# EAGLE library part AT89RF231 (library squirrel)
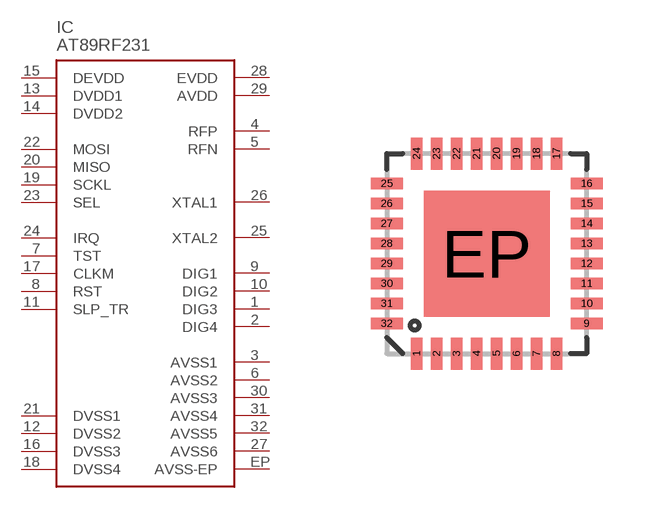
[diagram p4: symbol with the pads of QFN-32; footprint QFN-32]

Designator prefix IC

## AT89RF231  [QFN-32]
1  DIG3
2  DIG4
3  AVSS1
4  RFP
5  RFN
6  AVSS2
7  TST
8  RST
9  DIG1
10  DIG2
11  SLP_TR
12  DVSS2
13  DVDD1
14  DVDD2
15  DEVDD
16  DVSS3
17  CLKM
18  DVSS4
19  SCKL
20  MISO
21  DVSS1
22  MOSI
23  SEL
24  IRQ
25  XTAL2
26  XTAL1
27  AVSS6
28  EVDD
29  AVDD
30  AVSS3
31  AVSS4
32  AVSS5
EP  AVSS-EP

## Footprint QFN-32 (pad centres in mm)
QFN 32-Pin package w/ Thermal Pad
smd 0.285 x 0.8: 1 -1.75,-2.5; 2 -1.25,-2.5; 3 -0.75,-2.5; 4 -0.25,-2.5; 5 0.25,-2.5; 6 0.75,-2.5; 7 1.25,-2.5; 8 1.75,-2.5; 17 1.75,2.5; 18 1.25,2.5; 19 0.75,2.5; 20 0.25,2.5; 21 -0.25,2.5; 22 -0.75,2.5; 23 -1.25,2.5; 24 -1.75,2.5
smd 0.8 x 0.285: 9 2.5,-1.75; 10 2.5,-1.25; 11 2.5,-0.75; 12 2.5,-0.25; 13 2.5,0.25; 14 2.5,0.75; 15 2.5,1.25; 16 2.5,1.75; 25 -2.5,1.75; 26 -2.5,1.25; 27 -2.5,0.75; 28 -2.5,0.25; 29 -2.5,-0.25; 30 -2.5,-0.75; 31 -2.5,-1.25; 32 -2.5,-1.75
smd 3.15 x 3.15: EP 0,0